# EAGLE library part FPC28V (library lbm)
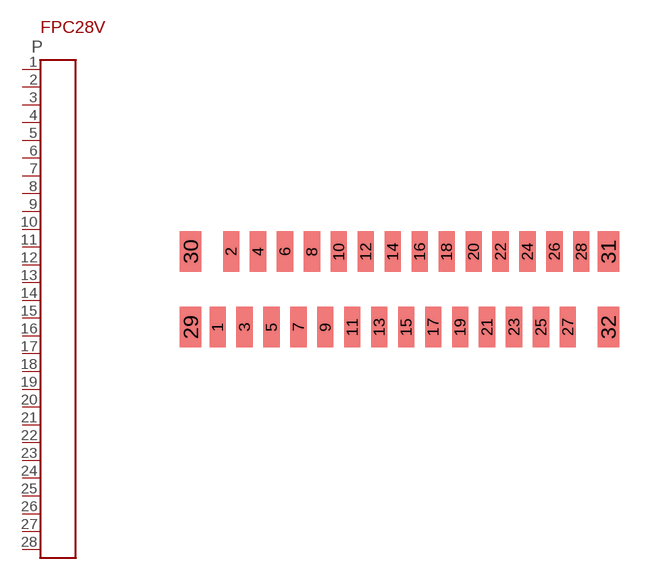
[diagram p41: symbol with the pads of FPC28V; footprint FPC28V]

Designator prefix P

## FPC28V  [FPC28V]
1  1  pas
2  2  pas
3  3  pas
4  4  pas
5  5  pas
6  6  pas
7  7  pas
8  8  pas
9  9  pas
10  10  pas
11  11  pas
12  12  pas
13  13  pas
14  14  pas
15  15  pas
16  16  pas
17  17  pas
18  18  pas
19  19  pas
20  20  pas
21  21  pas
22  22  pas
23  23  pas
24  24  pas
25  25  pas
26  26  pas
27  27  pas
28  28  pas

## Footprint FPC28V (pad centres in mm)
smd 0.6 x 1.5: 1 0,0; 2 0.5,2.8; 3 1,0; 4 1.5,2.8; 5 2,0; 6 2.5,2.8; 7 3,0; 8 3.5,2.8; 9 4,0; 10 4.5,2.8; 11 5,0; 12 5.5,2.8; 13 6,0; 14 6.5,2.8; 15 7,0; 16 7.5,2.8; 17 8,0; 18 8.5,2.8; 19 9,0; 20 9.5,2.8; 21 10,0; 22 10.5,2.8; 23 11,0; 24 11.5,2.8; 25 12,0; 26 12.5,2.8; 27 13,0; 28 13.5,2.8
smd 0.8 x 1.5: 29 -1,0; 30 -1,2.8; 31 14.5,2.8; 32 14.5,0